# Altium schematic symbol library Optocoupler.SchLib: 1 symbol
Pins are listed as number, name and electrical type; pins without a type are passive.

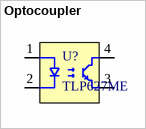
[diagram p0: symbol Optocoupler]

## Optocoupler
designator U?, comment TLP627ME
pins: 1 A, 2 K, 3 E, 4 C